# Altium footprint library Control_Board_Model_C201.PcbLib: 95 footprints (part 2 of 6)
Each footprint in its own frame and in the unit in brackets; x right, y up, seen from the top. Pads: shape width x height; smd on the part's side, far side on the other; paste and mask are expansions set on the pad; w line width, h text height; cw(c..) or ccw(c..) is an arc to the next point about the centre after c.
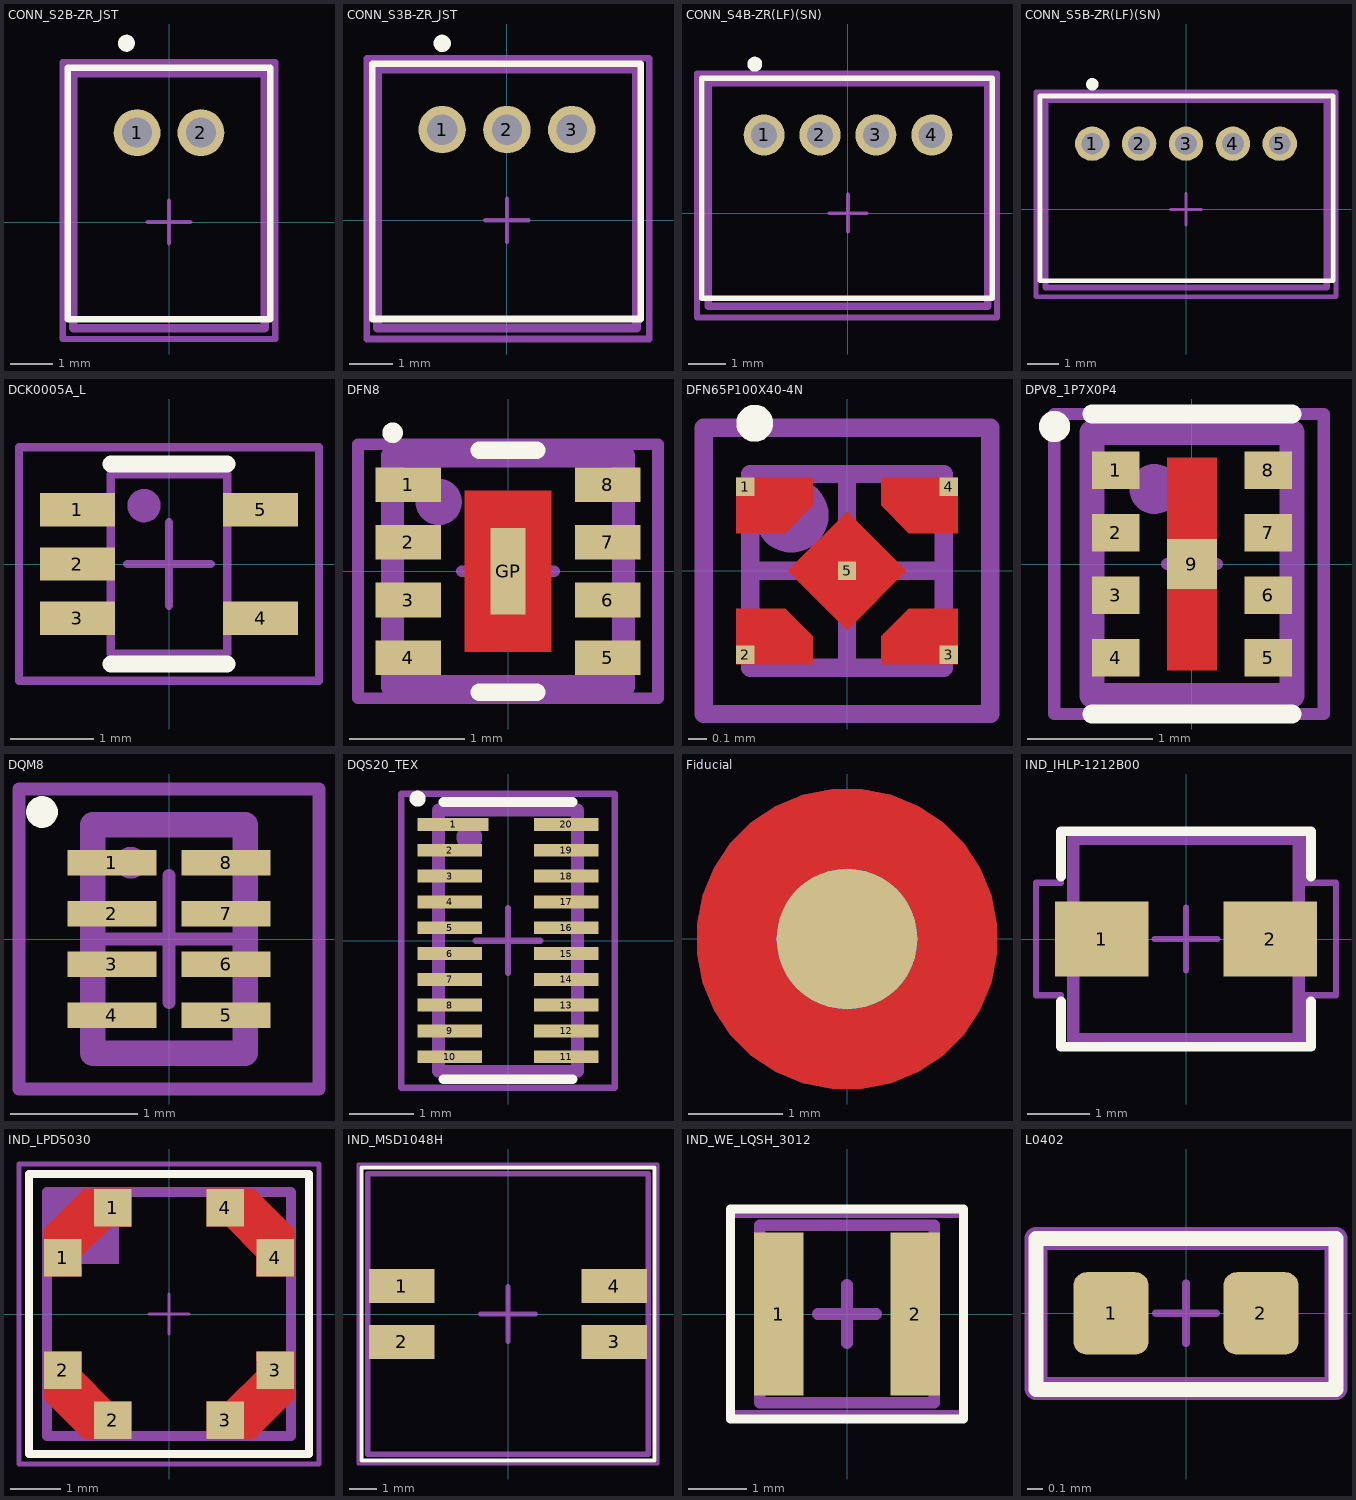
[diagram p1: the footprints below, top view; thin cyan lines are the x and y axes]

## CONN_S2B-ZR_JST [mm] "Connector Header Through Hole, Right Angle 2 position 0.059\" (1.50mm)"
height 3.7
pads (2):
  round 1.1 hole 0.7: 1(-0.75,2.1) 2(0.75,2.1)
Top Overlay:
  circle w0.2: c-1,4.2 r0.1
  lines w0.152: -2.375,-2.286 2.375,-2.286 2.375,3.627 -2.375,3.627 -2.375,-2.286
Mechanical 14:
  lines w0.2: -2.248,-2.494 2.248,-2.494 2.248,3.5 -2.248,3.5 -2.248,-2.494
  text "'.Designator'" at -0.8,-0.2 h0.5
  text "1" at -0.9,1.6 h1.02
  text "2" at 0.5,1.6 h1.02
Mechanical 15:
  lines w0.1: -0.5,0 0.5,0 ; 0,-0.5 0,0.5
  lines w0.152: -2.502,-2.748 -2.502,3.754 2.502,3.754 2.502,-2.748 -2.502,-2.748
3D body "S2B-ZR.STEP": height 3.8, standoff -2.6, extent -2.25,-2.495 2.25,3.505

## CONN_S3B-ZR_JST [mm] "Connector Header Through Hole, Right Angle 3 position 0.059\" (1.50mm)"
height 3.7
pads (3):
  round 1.1 hole 0.7: 1(-1.5,2.1) 2(0,2.1) 3(1.5,2.1)
Top Overlay:
  circle w0.2: c-1.5,4.1 r0.1
  lines w0.152: -3.125,-2.286 -3.125,3.627 3.1,3.627 3.1,-2.286 -3.125,-2.286
Mechanical 14:
  lines w0.2: -2.998,-2.494 -2.998,3.5 3,3.5 3,-2.494 -2.998,-2.494
  text "1" at -1.5,1.5 h1.02
  text "2" at -0.3,1.5 h1.02
  text "3" at 1.2,1.5 h1.02
  text "'.Designator'" at -0.7,-0.3 h0.5
Mechanical 15:
  lines w0.1: -0.5,0 0.5,0 ; 0,-0.5 0,0.5
  lines w0.152: -3.252,-2.748 3.3,-2.748 3.3,3.754 -3.252,3.754 -3.252,-2.748
3D body "S3B-ZR.STEP": height 3.8, standoff -2.6, extent -3,-2.494 3,3.506

## CONN_S4B-ZR(LF)(SN) [mm] "CONN HEADER R/A 4POS 1.5MM"
height 3.7
pads (4):
  round 1.1 hole 0.7: 1(-2.25,2.1) 2(-0.75,2.1) 3(0.75,2.1) 4(2.25,2.1)
Top Overlay:
  circle w0.2: c-2.5,4 r0.1
  lines w0.152: -3.924,-2.286 -3.924,3.627 3.874,3.627 3.874,-2.286 -3.924,-2.286
Mechanical 14:
  lines w0.2: -3.75,-2.5 -3.75,3.5 3.75,3.5 3.75,-2.5 -3.75,-2.5
  text "4" at 1.8,1.5 h1.02
  text "3" at 0.4,1.5 h1.02
  text "2" at -1,1.5 h1.02
  text "1" at -2.4,1.5 h1.02
  text "'.Designator'" at -0.9,-0.3 h0.5
Mechanical 15:
  lines w0.1: -0.5,0 0.5,0 ; 0,-0.5 0,0.5
  lines w0.152: -4.051,-2.799 4.001,-2.799 4.001,3.754 -4.051,3.754 -4.051,-2.799
3D body "S4B-ZR.STEP": height 3.8, standoff -2.6, extent -3.75,-2.5 3.75,3.5

## CONN_S5B-ZR(LF)(SN) [mm] "CONN HEADER R/A 5POS 1.5MM"
height 3.7
pads (5):
  round 1.1 hole 0.7: 1(-3,2.1) 2(-1.5,2.1) 3(0,2.1) 4(1.5,2.1) 5(3,2.1)
Top Overlay:
  circle w0.2: c-3,4 r0.1
  lines w0.152: -4.674,-2.286 -4.674,3.627 4.7,3.627 4.7,-2.286 -4.674,-2.286
Mechanical 14:
  lines w0.2: -4.5,-2.5 -4.5,3.5 4.5,3.5 4.5,-2.5 -4.5,-2.5
  text "'.Designator'" at -0.8,-0.2 h0.5
  text "5" at 2.7,1.5 h1.02
  text "4" at 1.2,1.5 h1.02
  text "3" at -0.3,1.5 h1.02
  text "2" at -1.8,1.5 h1.02
  text "1" at -3.1,1.5 h1.02
Mechanical 15:
  lines w0.1: -0.5,0 0.5,0 ; 0,-0.5 0,0.5
  lines w0.152: -4.801,-2.799 4.8,-2.799 4.8,3.754 -4.801,3.754 -4.801,-2.799
3D body "S5B-ZR.STEP": height 3.8, standoff -2.6, extent -4.5,-2.5 4.5,3.5

## DCK0005A_L [mm]
pads (5):
  rect 0.9x0.4 smd paste-0.025 mask+0.05: 1(-1.1,0.65) 2(-1.1,0) 3(-1.1,-0.65) 4(1.1,-0.65) 5(1.1,0.65)
Top Overlay:
  lines w0.2: -0.7,-1.2 0.7,-1.2 ; -0.7,1.2 0.7,1.2
  text "." at -1.5,1.2 h1
Mechanical 14:
  circle w0.2: c-0.3,0.7 r0.1
  rectangle: 0.711,-0.763 1.137,-0.538
  rectangle: 0.711,0.537 1.137,0.762
  rectangle: -1.143,-0.763 -0.711,-0.538
  rectangle: -1.143,-0.113 -0.711,0.112
  rectangle: -1.1,0.537 -0.711,0.762
  lines w0.1: -0.7,-1.075 -0.7,1.075 0.7,1.075 0.7,-1.075 -0.7,-1.075
  lines w0.127: -0.865,0.762 -0.853,0.762 ; -0.711,-0.763 -0.853,-0.763 -0.865,-0.763 -0.959,-0.763 -1.143,-0.763 -1.143,-0.538 -0.959,-0.538 -0.865,-0.538 -0.853,-0.538 -0.711,-0.538 ; -0.711,-0.113 -0.853,-0.113 -0.865,-0.113 -0.959,-0.113 -1.143,-0.113 -1.143,0.112 -0.959,0.112 -0.865,0.112 -0.853,0.112 -0.711,0.112 ; -0.711,0.537 -0.853,0.537 -0.865,0.537 -0.959,0.537 -1.143,0.537 -1.143,0.762 -0.959,0.762 -0.711,0.762 ; 0.711,-0.763 0.847,-0.763 0.859,-0.763 0.953,-0.763 1.137,-0.763 1.137,-0.538 0.953,-0.538 0.859,-0.538 0.847,-0.538 0.711,-0.538 ; 0.711,0.537 0.847,0.537 0.859,0.537 0.953,0.537 1.137,0.537 1.137,0.762 0.953,0.762 0.859,0.762 0.847,0.762 0.711,0.762
  text ".Designator" at -0.4,-0.2 h0.5
Mechanical 15:
  lines w0.1: -0.5,0 0.5,0 ; 0,-0.5 0,0.5 ; -1.8,-1.4 1.8,-1.4 1.8,1.4 -1.8,1.4 -1.8,-1.4
3D body "DCK0005A.stp": height 1, standoff 0, extent -1.05,-1 1.05,1

## DFN8 [mm] "DFN8 2x2, 0.5P CASE 506AQ"
height 1
pads (9):
  rect 0.57x0.3 smd mask+0.05: 1(-0.865,0.75) 2(-0.865,0.25) 3(-0.865,-0.25) 4(-0.865,-0.75) 5(0.865,-0.75) 6(0.865,-0.25) 7(0.865,0.25) 8(0.865,0.75)
  rect 0.3x0.75 smd mask+0.05: GP(0,0)
Top Layer:
  rectangle: -0.375,-0.7 0.375,0.7
Top Overlay:
  circle w0.128: c-1,1.2 r0.025
  lines w0.152: -0.25,-1.05 0.25,-1.05 ; -0.25,1.05 0.25,1.05
Top Paste:
  rectangle: -0.375,-0.7 0.375,0.7
Top Solder:
  rectangle: -0.425,-0.75 0.425,0.75
Mechanical 14:
  circle w0.2: c-0.6,0.6 r0.1
  lines w0.2: -1,-1 -1,1 1,1 1,-1 -1,-1
  text "'.Designator'" at -0.3,-0.2 h0.5
Mechanical 15:
  lines w0.1: -0.4,0 0.4,0 ; 0,-0.4 0,0.4 ; -1.3,-1.1 -1.3,1.1 1.3,1.1 1.3,-1.1 -1.3,-1.1
3D body: height 1, standoff 0, extent -1,-1 1,1

## DFN65P100X40-4N [mm] "DFN, 4-Leads, Body 1.00x1.00mm, Pitch 0.65mm, IPC Medium Density"
height 0.4
pads (5):
  rect 0.1x0.1 smd paste-0.2 mask-0.2: 1(-0.55,0.455) 2(-0.55,-0.455) 3(0.55,-0.455) 4(0.55,0.455) 5(0,0)
Top Layer:
  region: 0,-0.323 0.323,0 0,0.323 -0.323,0
  region: -0.6,-0.505 -0.6,-0.205 -0.335,-0.205 -0.185,-0.355 -0.185,-0.505
  region: 0.6,0.505 0.6,0.205 0.335,0.205 0.185,0.355 0.185,0.505
  region: 0.6,-0.505 0.6,-0.205 0.335,-0.205 0.185,-0.355 0.185,-0.505
  region: -0.6,0.505 -0.6,0.205 -0.335,0.205 -0.185,0.355 -0.185,0.505
Top Overlay:
  circle w0.1: c-0.5,0.8 r0.05
Top Paste:
  region: 0,-0.323 0.323,0 0,0.323 -0.323,0
  region: -0.6,0.505 -0.6,0.205 -0.335,0.205 -0.185,0.355 -0.185,0.505
  region: 0.6,-0.505 0.6,-0.205 0.335,-0.205 0.185,-0.355 0.185,-0.505
  region: 0.6,0.505 0.6,0.205 0.335,0.205 0.185,0.355 0.185,0.505
  region: -0.6,-0.505 -0.6,-0.205 -0.335,-0.205 -0.185,-0.355 -0.185,-0.505
Top Solder:
  region: 0,-0.359 0.359,0 0,0.359 -0.359,0
  region: -0.625,-0.53 -0.625,-0.18 -0.335,-0.18 -0.16,-0.355 -0.16,-0.53
  region: 0.625,0.53 0.625,0.18 0.335,0.18 0.16,0.355 0.16,0.53
  region: 0.625,-0.53 0.625,-0.18 0.335,-0.18 0.16,-0.355 0.16,-0.53
  region: -0.625,0.53 -0.625,0.18 -0.335,0.18 -0.16,0.355 -0.16,0.53
Mechanical 14:
  circle w0.2: c-0.3,0.3 r0.1
  lines w0.1: -0.525,-0.525 0.525,-0.525 0.525,0.525 -0.525,0.525 -0.525,-0.525
  text "'.Designator'" at -0.5,-0.2 h0.5
Mechanical 15:
  lines w0.1: -0.5,0 0.5,0 ; 0,-0.5 0,0.5 ; -0.775,-0.775 0.775,-0.775 0.775,0.775 -0.775,0.775 -0.775,-0.775
3D body "DFN65P100X40-4N.step": height 0.4, standoff 0, extent -0.525,-0.525 0.525,0.525

## DPV8_1P7X0P4 [mm]
pads (9):
  rect 0.38x0.3 smd paste+0 mask+0.05: 1(-0.61,0.75) 2(-0.61,0.25) 3(-0.61,-0.25) 4(-0.61,-0.75) 5(0.61,-0.75) 6(0.61,-0.25) 7(0.61,0.25) 8(0.61,0.75)
  rect 0.4x0.4 smd paste-0.837 mask+0.05: 9(0,0)
Top Layer:
  rectangle: -0.2,-0.85 0.2,0.85
Top Overlay:
  circle w0.15: c-1.1,1.1 r0.05
  lines w0.152: -0.8,-1.2 0.8,-1.2 ; -0.8,1.2 0.8,1.2
Top Paste:
  region: 0.2,0.85 -0.2,0.85 -0.2,-0.85 0.2,-0.85
Top Solder:
  rectangle: -0.25,-0.9 0.25,0.9
Mechanical 14:
  circle w0.2: c-0.3,0.6 r0.1
  lines w0.2: -0.8,-1.05 0.8,-1.05 0.8,1.05 -0.8,1.05 -0.8,-1.05
  text "'.Designator'" at -0.6,-0.2 h0.5
Mechanical 15:
  lines w0.1: -0.2,0 0.2,0 ; 0,-0.2 0,0.2 ; -1.1,-1.2 -1.1,1.2 1.054,1.2 1.054,-1.2 -1.1,-1.2
3D body "DPV8_1P7X0P4.step": height 0.65, standoff 0, extent -0.8,-1.05 0.8,1.05

## DQM8 [mm]
pads (8):
  rect 0.7x0.2 smd mask+0.05: 1(-0.45,0.6) 2(-0.45,0.2) 3(-0.45,-0.2) 4(-0.45,-0.6) 5(0.45,-0.6) 6(0.45,-0.2) 7(0.45,0.2) 8(0.45,0.6)
Top Overlay:
  circle w0.15: c-1,1 r0.05
Mechanical 14:
  circle w0.15: c-0.3,0.6 r0.05
  lines w0.2: -0.6,-0.9 -0.6,0.9 0.6,0.9 0.6,-0.9 -0.6,-0.9
  text "'.Designator'" at -0.5,-0.3 h0.5
Mechanical 15:
  lines w0.1: -0.5,0 0.5,0 ; 0,-0.5 0,0.5 ; -1.181,-1.181 -1.181,1.181 1.181,1.181 1.181,-1.181 -1.181,-1.181
3D body "DQM0008A.stp": height 0.5, standoff 0, extent -0.6,-0.9 0.6,0.9

## DQS20_TEX [mm]
pads (20):
  rect 1.1x0.2 smd paste-0.1 mask+0.05: 1(-0.85,1.8)
  rect 1x0.2 smd paste-0.1 mask+0.05: 2(-0.9,1.4) 3(-0.9,1) 4(-0.9,0.6) 5(-0.9,0.2) 6(-0.9,-0.2) 7(-0.9,-0.6) 8(-0.9,-1) 9(-0.9,-1.4) 10(-0.9,-1.8) 11(0.9,-1.8) 12(0.9,-1.4) 13(0.9,-1) 14(0.9,-0.6) 15(0.9,-0.2) 16(0.9,0.2) 17(0.9,0.6) 18(0.9,1) 19(0.9,1.4) 20(0.9,1.8)
Top Overlay:
  circle w0.15: c-1.4,2.2 r0.05
  lines w0.152: -1,-2.15 1,-2.15 ; -1,2.15 1,2.15
Top Paste:
  rectangle: -1.375,1.7 -0.325,1.9
  rectangle: 0.425,1.7 1.375,1.9
  rectangle: 0.425,1.3 1.375,1.5
  rectangle: 0.425,0.9 1.375,1.1
  rectangle: 0.425,0.5 1.375,0.7
  rectangle: 0.425,0.1 1.375,0.3
  rectangle: 0.425,-0.3 1.375,-0.1
  rectangle: 0.425,-0.7 1.375,-0.5
  rectangle: 0.425,-1.1 1.375,-0.9
  rectangle: 0.425,-1.5 1.375,-1.3
  rectangle: 0.425,-1.9 1.375,-1.7
  rectangle: -1.375,-1.9 -0.425,-1.7
  rectangle: -1.375,-1.5 -0.425,-1.3
  rectangle: -1.375,-1.1 -0.425,-0.9
  rectangle: -1.375,-0.7 -0.425,-0.5
  rectangle: -1.375,-0.3 -0.425,-0.1
  rectangle: -1.375,0.1 -0.425,0.3
  rectangle: -1.375,0.5 -0.425,0.7
  rectangle: -1.375,0.9 -0.425,1.1
  rectangle: -1.375,1.3 -0.425,1.5
Mechanical 14:
  circle w0.2: c-0.6,1.6 r0.1
  lines w0.2: -1.075,-2.025 -1.075,2.025 1.075,2.025 1.075,-2.025 -1.075,-2.025
  text "'.Designator'" at -0.5,-0.3 h0.5
Mechanical 15:
  lines w0.1: -0.5,0 0.5,0 ; 0,-0.5 0,0.5 ; -1.654,-2.279 -1.654,2.279 1.654,2.279 1.654,-2.279 -1.654,-2.279
3D body "SON40P200X55-20N.step": height 0.55, standoff 0, extent -1.075,-2.025 1.075,2.025

## Fiducial [mm]
pads (2):
  round 1.5 smd paste+0 mask+0.75: ""(0,0)
  round 1.5 smd far side paste+0 mask+0.75: ""(0,0)
Top Layer:
  pour cut-out: 0,1.6 0.158,1.6 0.467,1.538 0.758,1.418 1.02,1.243 1.243,1.02 1.418,0.758 1.538,0.467 1.6,0.158 1.6,0 1.6,-0.158 1.538,-0.467 1.418,-0.758 1.243,-1.02 1.02,-1.243 0.758,-1.418 0.467,-1.539 0.158,-1.6 0,-1.6 -0.158,-1.6 -0.467,-1.538 -0.758,-1.418 -1.02,-1.243 -1.243,-1.02 -1.418,-0.758 -1.538,-0.467 -1.6,-0.158 -1.6,0 -1.6,0.158 -1.538,0.467 -1.418,0.758 -1.243,1.02 -1.02,1.243 -0.758,1.418 -0.467,1.538 -0.158,1.6
Bottom Layer:
  pour cut-out: 0,1.6 0.158,1.6 0.467,1.538 0.758,1.418 1.02,1.243 1.243,1.02 1.418,0.758 1.538,0.467 1.6,0.158 1.6,0 1.6,-0.158 1.538,-0.467 1.418,-0.758 1.243,-1.02 1.02,-1.243 0.758,-1.418 0.467,-1.539 0.158,-1.6 0,-1.6 -0.158,-1.6 -0.467,-1.538 -0.758,-1.418 -1.02,-1.243 -1.243,-1.02 -1.418,-0.758 -1.538,-0.467 -1.6,-0.158 -1.6,0 -1.6,0.158 -1.538,0.467 -1.418,0.758 -1.243,1.02 -1.02,1.243 -0.758,1.418 -0.467,1.538 -0.158,1.6
Mechanical 9:
  lines w0.2: -0.635,0 0.635,0 ; 0,-0.635 0,0.635
3D body: height -0.19, standoff -0.2, extent -1.488,-1.497 1.5,1.497

## IND_IHLP-1212B00 [mm] "1µH Shielded Molded Inductor 5A 24mOhm Max Nonstandard"
height 2
pads (2):
  rect 1.5x1.2 smd: 1(-1.35,0) 2(1.35,0)
Top Overlay:
  lines w0.152: -2,-1 -2,-1.727 2,-1.727 2,-1 ; -2,1 -2,1.727 2,1.727 2,1
Mechanical 14:
  lines w0.2: -1.803,-1.6 1.803,-1.6 1.803,1.6 -1.803,1.6 -1.803,-1.6
  text "'.Designator'" at -0.8,-0.3 h0.5
Mechanical 15:
  lines w0.1: -0.5,0 0.5,0 ; 0,-0.5 0,0.5 ; -2.4,-0.9 -2.4,0.9 -2,0.9 -2,1.702 1.905,1.702 1.905,0.9 2.4,0.9 2.4,-0.9 1.905,-0.9 1.905,-1.702 -2,-1.702 -2,-0.9 -2.4,-0.9
3D body "IND_IHLP-1212BZ_VIS.step": height 2.06, standoff 0, extent -1.803,-1.6 1.803,1.6

## IND_LPD5030 [mm] "Shielded Coupled Inductors"
height 3
pads (8):
  rect 0.75x0.75 smd: 1(-2.125,1.125) 1(-1.125,2.125) 2(-2.125,-1.125) 2(-1.125,-2.125) 3(1.125,-2.125) 3(2.125,-1.125) 4(1.125,2.125) 4(2.125,1.125)
Top Layer:
  region: -1.75,0.75 -2.5,0.75 -2.5,1.7 -1.7,2.5 -0.75,2.5 -0.75,1.75 -1.151,1.75 -1.75,1.151
  region: 0.75,1.75 0.75,2.5 1.7,2.5 2.5,1.7 2.5,0.75 1.75,0.75 1.75,1.151 1.151,1.75
  region: 1.75,-0.75 2.5,-0.75 2.5,-1.7 1.7,-2.5 0.75,-2.5 0.75,-1.75 1.151,-1.75 1.75,-1.151
  region: -0.75,-1.75 -0.75,-2.5 -1.7,-2.5 -2.5,-1.7 -2.5,-0.75 -1.75,-0.75 -1.75,-1.151 -1.151,-1.75
Top Overlay:
  lines w0.152: -2.8,-2.8 -2.8,2.8 2.8,2.8 2.8,-2.8 -2.8,-2.8
  text "." at -3.4,2.1 h1
Top Paste:
  region: -0.75,-1.75 -0.75,-2.5 -1.7,-2.5 -2.5,-1.7 -2.5,-0.75 -1.75,-0.75 -1.75,-1.151 -1.151,-1.75
  region: 1.75,-0.75 2.5,-0.75 2.5,-1.7 1.7,-2.5 0.75,-2.5 0.75,-1.75 1.151,-1.75 1.75,-1.151
  region: 0.75,1.75 0.75,2.5 1.7,2.5 2.5,1.7 2.5,0.75 1.75,0.75 1.75,1.151 1.151,1.75
  region: -1.75,0.75 -2.5,0.75 -2.5,1.7 -1.7,2.5 -0.75,2.5 -0.75,1.75 -1.151,1.75 -1.75,1.151
Top Solder:
  region: -1.65,0.65 -2.6,0.65 -2.6,1.7 -1.7,2.6 -0.65,2.6 -0.65,1.65 -1.15,1.65 -1.65,1.15
  region: 0.65,1.65 0.65,2.6 1.7,2.6 2.6,1.7 2.6,0.65 1.65,0.65 1.65,1.15 1.15,1.65
  region: 1.65,-0.65 2.6,-0.65 2.6,-1.7 1.7,-2.6 0.65,-2.6 0.65,-1.65 1.15,-1.65 1.65,-1.15
  region: -0.65,-1.65 -0.65,-2.6 -1.7,-2.6 -2.6,-1.7 -2.6,-0.65 -1.65,-0.65 -1.65,-1.15 -1.15,-1.65
Mechanical 14:
  rectangle: -2.44,1 -1,2.44
  lines w0.2: -2.44,-2.44 -2.44,2.44 2.44,2.44 2.44,-2.44 -2.44,-2.44
  text "'.Designator'" at -1,0 h0.5
Mechanical 15:
  lines w0.051: -0.4,0 0.4,0 ; 0,-0.4 0,0.4
  lines w0.1: -3,-3 3,-3 3,3 -3,3 -3,-3
3D body "LPD5030.STEP": height 2.98, standoff 0, extent -2.44,-2.44 2.44,2.44

## IND_MSD1048H [mm] "Shielded Coupled Inductors"
height 3
pads (4):
  rect 2.4x1.25 smd: 1(-3.9,1.025) 2(-3.9,-1.025) 3(3.9,-1.025) 4(3.9,1.025)
Top Overlay:
  lines w0.152: -5.375,-5.375 5.375,-5.375 5.375,5.375 -5.375,5.375 -5.375,-5.375
Mechanical 14:
  lines w0.2: -5.15,-5.15 5.15,-5.15 5.15,5.15 -5.15,5.15 -5.15,-5.15
  text "4" at 3.7,0.8 h0.5
  text "3" at 3.7,-1.3 h0.5
  text "2" at -4.1,-1.3 h0.5
  text "1" at -4,0.8 h0.5
  text "'.Designator'" at -0.9,-0.2 h0.5
Mechanical 15:
  lines w0.1: -5.5,-5.5 5.5,-5.5 5.5,5.5 -5.5,5.5 -5.5,-5.5
  lines w0.2: -1,0 1,0 ; 0,-1 0,1
3D body "MSD1048H.STEP": height 5.1, standoff 0.1, extent -5.15,-5.15 5.15,5.15

## IND_WE_LQSH_3012 [mm] "FIXED IND 1UH 2.4A 54 MOHM MAX"
height 1.2
pads (2):
  rect 0.85x2.8 smd: 1(-1.175,0) 2(1.175,0)
Top Overlay:
  lines w0.152: -2,-1.8 -2,1.8 2,1.8 2,-1.8 -2,-1.8
Mechanical 14:
  lines w0.2: -1.5,-1.525 -1.5,1.525 1.5,1.525 1.5,-1.525 -1.5,-1.525
  text "'.Designator'" at -0.5,-0.3 h0.5
Mechanical 15:
  lines w0.1: -2,-1.7 -2,1.7 2,1.7 2,-1.7 -2,-1.7
  lines w0.2: -0.5,0 0.5,0 ; 0,-0.5 0,0.5
3D body "74405031010_Download_STP_WE-LQSH-3012_rev1.stp": height 1.25, standoff 0.05, extent -1.5,-1.518 1.5,1.525

## L0402 [mm]
height 0.5
pads (2):
  rrect35% 0.5x0.55 smd: 1(-0.5,0) 2(0.5,0)
Top Overlay:
  lines w0.1: -1,-0.508 1,-0.508 1,0.5 -1,0.5 -1,-0.508
Mechanical 14:
  lines w0.152: -1,-0.5 -1,0.5 1,0.5 1,-0.5 -1,-0.5
  text ".Designator" at -0.8,-0.2 h0.5
Mechanical 15:
  lines w0.05: -1,-0.5 1,-0.5 1,0.5 -1,0.5 -1,-0.5
  lines w0.051: -0.2,0 0.2,0 ; 0,-0.2 0,0.2
3D body "RC0402N.step": height 0.71, standoff 0, extent -0.533,-0.254 0.533,0.254